# EAGLE library part EPC2 (library altera)
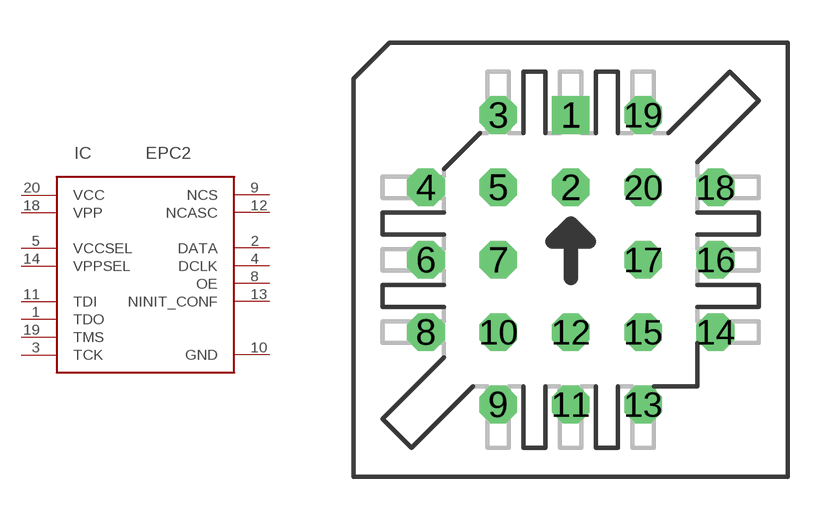
[diagram p1: symbol with the pads of PLCC20S; footprint PLCC20S]

Designator prefix IC

## EPC2LC20  [PLCC20S]
1  TDO
2  DATA
3  TCK
4  DCLK
5  VCCSEL
8  OE
9  NCS
10  GND  pwr
11  TDI
12  NCASC
13  NINIT_CONF
14  VPPSEL
18  VPP  pwr
19  TMS
20  VCC  pwr

## Footprint PLCC20S (pad centres in mm)
drill 0.813 square: 1 0,5.08
drill 0.813 octagon: 2 0,2.54; 3 -2.54,5.08; 4 -5.08,2.54; 5 -2.54,2.54; 6 -5.08,0; 7 -2.54,0; 8 -5.08,-2.54; 9 -2.54,-5.08; 10 -2.54,-2.54; 11 0,-5.08; 12 0,-2.54; 13 2.54,-5.08; 14 5.08,-2.54; 15 2.54,-2.54; 16 5.08,0; 17 2.54,0; 18 5.08,2.54; 19 2.54,5.08; 20 2.54,2.54